# EAGLE library part MC14046BCPG (library ON Semiconductor_By_element14_Batch_1)
Phase Locked Loop
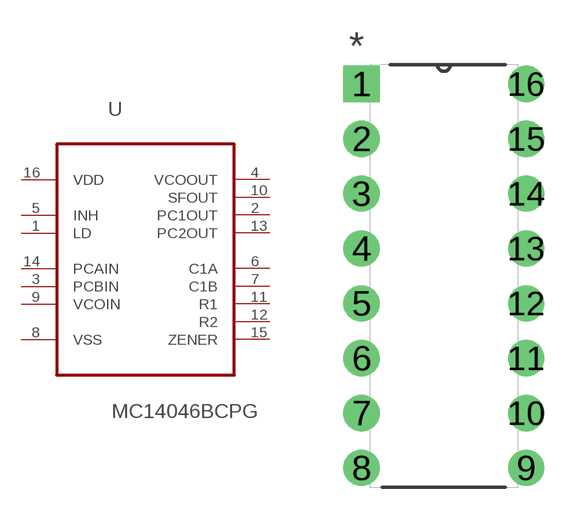
[diagram p231: symbol with the pads of DIP254P762X444-16; footprint DIP254P762X444-16]

Designator prefix U

## MC14046BCPG (MPN: MC14046BCPG; OC_FARNELL: 9664661; OC_NEWARK: 45J1053; PACKAGE: PDIP-16; SUPPLIER: ON SEMICONDUCTOR)  [DIP254P762X444-16]
1  LD  pas
2  PC1OUT  out
3  PCBIN  in
4  VCOOUT  out
5  INH  in
6  C1A  pas
7  C1B  pas
8  VSS  pwr
9  VCOIN  in
10  SFOUT  out
11  R1  pas
12  R2  pas
13  PC2OUT  out
14  PCAIN  in
15  ZENER  pas
16  VDD  pwr

## Footprint DIP254P762X444-16 (pad centres in mm)
drill 1.118 square: 1 -7.62,17.78
drill 1.118: 2 -7.62,15.24; 3 -7.62,12.7; 4 -7.62,10.16; 5 -7.62,7.62; 6 -7.62,5.08; 7 -7.62,2.54; 8 -7.62,0; 9 0,0; 10 0,2.54; 11 0,5.08; 12 0,7.62; 13 0,10.16; 14 0,12.7; 15 0,15.24; 16 0,17.78